# EAGLE library part 1324ПС5 (library microwave)
АЕЯР.431000.760–01 ТУ 1324ПС5 - СВЧ МИС пассивного широкополосного двойного балансного смесителя построенного на основе диодов Шоттки. Входы смесителя являются согласованными с линией с волновым сопротивлением 50 Ом. СВЧ МИС не требует подключения дополнительных внешних компонентов и работает при отсутствии напряжения питания. Достоинства: ► Диапазон входных частот 1,8-7,0 ГГц ► Диапазон выходных частот 0,01-4,4 ГГц ► Потери преобразования 9,4 дБ ► Точка компрессии по входу 10,0 дБм ► Диапазон рабочих температур -60…+85 °С Электрические параметры при Pгет=16 дБм, fпч=100 МГц, Rн=50 Ом, Т=25 °С, если не указано иного. Параметр, единица измерения Условия 1324ПС5У мин. тип. макс. Диапазон рабочих частот по входу, ГГц Ррч=-20 дБм 2,5-6,0 1,8-7,0 Диапазон рабочих частот по выходу ПЧ, ГГц Ррч=-20 дБм 0,01-3,0 0,01-4,4 Потери преобразования, дБ Ррч=-20 дБм, fрч=5 ГГц 9,4 10,8 Неравномерность коэфф. преобразования, дБ fрч=3,3-7,3 ГГц 2,0 Точка компрессии по входу, дБм 10 Изоляция ПЧ от гетеродина, дБ fгет=5 ГГц 25 Изоляция РЧ от гетеродина, дБ fгет=5 ГГц 22 Диапазон рабочих температур, °С -60 +85 Тепловое сопротивление «переход-среда», °С/Вт Корпус 5140.8-АНЗ 100 Производитель: ОАО «НПП «ПУЛЬСАР», г. Москва.
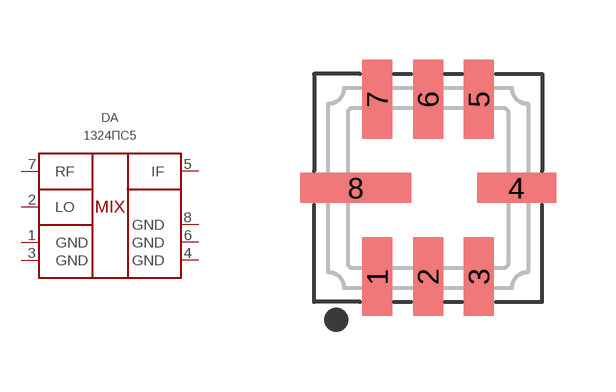
[diagram p11: symbol with the pads of 5140.8-АН3; footprint 5140.8-АН3]

Designator prefix DA

## 1324ПС5У  [5140.8-АН3]
1  GND  pwr
2  LO  in
3  GND  pwr
4  GND  pwr
5  IF  out
6  GND  pwr
7  RF  in
8  GND  pwr

## Footprint 5140.8-АН3 (pad centres in mm)
smd 0.75 x 1.97: 1 -1.27,-2.215; 2 0,-2.215; 3 1.27,-2.215; 5 1.27,2.215; 6 0,2.215; 7 -1.27,2.215
smd 1.97 x 0.75: 4 2.215,0
smd 2.78 x 0.75: 8 -1.81,0